# Altium integrated library National Semiconductor Amplifier.IntLib: 1665 symbols (part 18 of 44)
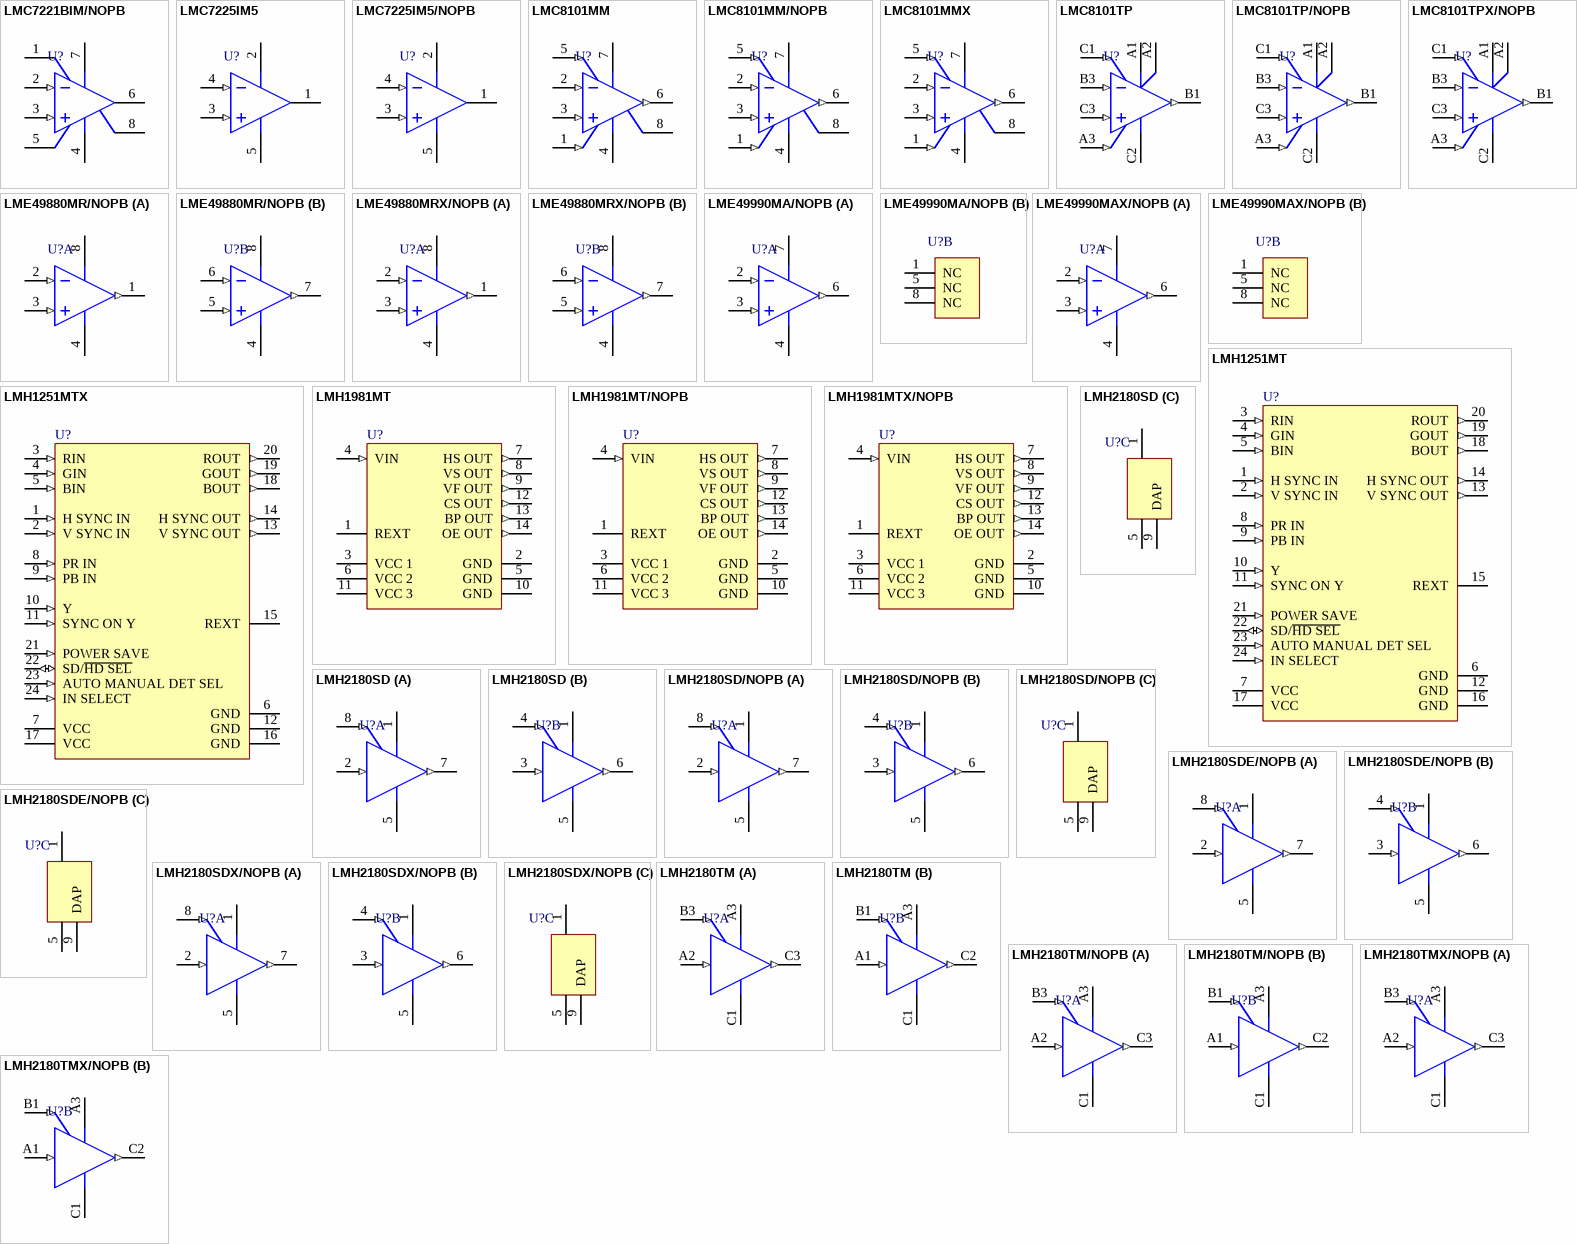
[diagram p101: symbols LMC7221BIM/NOPB to LMH2180TMX/NOPB]

## LMH2180TM/NOPB
designator U?
75 MHz Dual Clock Buffer, 8-pin Micro SMD, Pb-Free; PartNumber: LMH2180TM/NOPB; Manufacturer: National Semiconductor; PackageTopMarking: XVA*I A; PowerWise: N; CompType: Amplifiers; High-Reliability: Y; DatasheetVersion: Aug-2008; PackageVersion: revA; PackageReference: TMD08CCA; PackageDescription: Thin Micro SMD, 8 Bump, 0.4mm Pitch; RoHS: Y; PinCount: 8; ComponentLink1Description: Manufacturer URL; ComponentLink1URL: http://www.national.com/; ComponentLink2Description: LMH2180 Datasheet; ComponentLink2URL: http://www.national.com/ds/LM/LMH2180.pdf; ComponentLink3Description: LMH2180 Web Page; ComponentLink3URL: http://www.national.com/pf/LM/LMH2180.html; ComponentLink4Description: TMD08AAA Package Page; ComponentLink4URL: http://www.national.com/packaging/folders/tmd08aaa.html
footprint TMD08CCA (Micro SMD, 8-Leads, Body 1.22x1.22mm, Pitch 0.4mm, NSC Recommended)
pins on every part: A3 VDD (power), C1 VSS (power)
part A pins: A2 IN1 (in), B3 EN1 (in), C3 OUT1 (out)
part B pins: A1 IN2 (in), B1 EN2 (in), C2 OUT2 (out)

## LMH2180TMX/NOPB
designator U?
75 MHz Dual Clock Buffer, 8-pin Micro SMD, Pb-Free; PartNumber: LMH2180TMX/NOPB; Manufacturer: National Semiconductor; PackageTopMarking: XVA*I A; PowerWise: N; CompType: Amplifiers; High-Reliability: Y; DatasheetVersion: Aug-2008; PackageVersion: revA; PackageReference: TMD08CCA; PackageDescription: Thin Micro SMD, 8 Bump, 0.4mm Pitch; RoHS: Y; PinCount: 8; ComponentLink1Description: Manufacturer URL; ComponentLink1URL: http://www.national.com/; ComponentLink2Description: LMH2180 Datasheet; ComponentLink2URL: http://www.national.com/ds/LM/LMH2180.pdf; ComponentLink3Description: LMH2180 Web Page; ComponentLink3URL: http://www.national.com/pf/LM/LMH2180.html; ComponentLink4Description: TMD08AAA Package Page; ComponentLink4URL: http://www.national.com/packaging/folders/tmd08aaa.html
footprint TMD08CCA (Micro SMD, 8-Leads, Body 1.22x1.22mm, Pitch 0.4mm, NSC Recommended)
pins on every part: A3 VDD (power), C1 VSS (power)
part A pins: A2 IN1 (in), B3 EN1 (in), C3 OUT1 (out)
part B pins: A1 IN2 (in), B1 EN2 (in), C2 OUT2 (out)

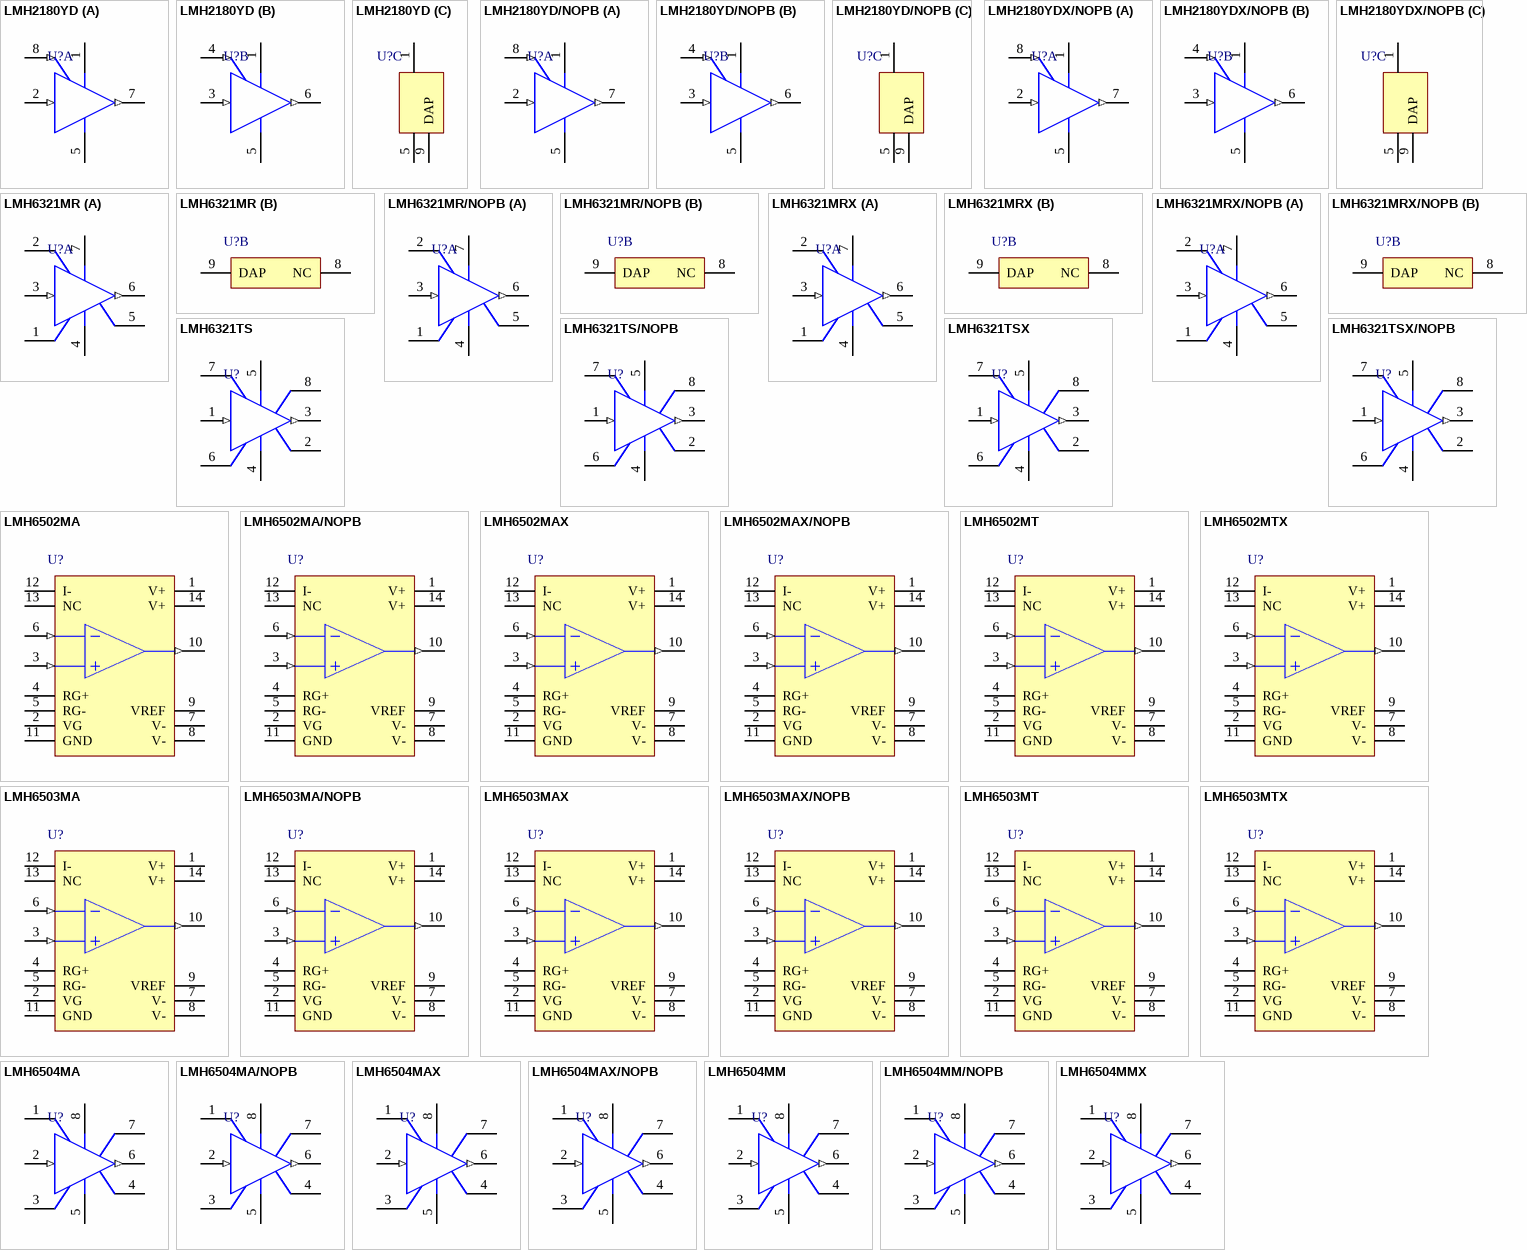
[diagram p39: symbols LMH2180YD to LMH6504MMX]

## LMH2180YD
designator U?
75 MHz Dual Clock Buffer, 9-pin LLP; PartNumber: LMH2180YD; Manufacturer: National Semiconductor; PackageTopMarking: ZXYTT*2180Y; PowerWise: N; CompType: Amplifiers; High-Reliability: Y; DatasheetVersion: Aug-2008; PackageVersion: revB, Jun-2005; PackageReference: YDA08A; PackageDescription: LLP, Plastic, Dual, 3 x 3 x 0.8mm, 8 Lead, 0.5mm Pitch, Solder Bump; RoHS: Y; PinCount: 8; ComponentLink1Description: Manufacturer URL; ComponentLink1URL: http://www.national.com/; ComponentLink2Description: LMH2180 Datasheet; ComponentLink2URL: http://www.national.com/ds/LM/LMH2180.pdf; ComponentLink3Description: LMH2180 Web Page; ComponentLink3URL: http://www.national.com/pf/LM/LMH2180.html; ComponentLink4Description: YDA08A Package Page; ComponentLink4URL: http://www.national.com/packaging/folders/yda08a.html
footprint YDA08A (PSON, 8-Leads, Body 3x3mm, Pitch 0.5mm, NSC Recommended)
pins on every part: 1 VDD (power), 5 VSS (power)
part A pins: 2 IN1 (in), 7 OUT1 (out), 8 EN1 (in)
part B pins: 3 IN2 (in), 4 EN2 (in), 6 OUT2 (out)
part C pins: 9 DAP

## LMH2180YD/NOPB
designator U?
75 MHz Dual Clock Buffer, 8-pin LLP, Pb-Free; PartNumber: LMH2180YD/NOPB; Manufacturer: National Semiconductor; PackageTopMarking: ZXYTT*2180Y; PowerWise: N; CompType: Amplifiers; High-Reliability: Y; DatasheetVersion: Aug-2008; PackageVersion: revB, Jun-2005; PackageReference: YDA08A; PackageDescription: LLP, Plastic, Dual, 3 x 3 x 0.8mm, 8 Lead, 0.5mm Pitch, Solder Bump; RoHS: Y; PinCount: 8; ComponentLink1Description: Manufacturer URL; ComponentLink1URL: http://www.national.com/; ComponentLink2Description: LMH2180 Datasheet; ComponentLink2URL: http://www.national.com/ds/LM/LMH2180.pdf; ComponentLink3Description: LMH2180 Web Page; ComponentLink3URL: http://www.national.com/pf/LM/LMH2180.html; ComponentLink4Description: YDA08A Package Page; ComponentLink4URL: http://www.national.com/packaging/folders/yda08a.html
footprint YDA08A (PSON, 8-Leads, Body 3x3mm, Pitch 0.5mm, NSC Recommended)
pins on every part: 1 VDD (power), 5 VSS (power)
part A pins: 2 IN1 (in), 7 OUT1 (out), 8 EN1 (in)
part B pins: 3 IN2 (in), 4 EN2 (in), 6 OUT2 (out)
part C pins: 9 DAP

## LMH2180YDX/NOPB
designator U?
75 MHz Dual Clock Buffer, 8-pin LLP, Pb-Free; PartNumber: LMH2180YDX/NOPB; Manufacturer: National Semiconductor; PackageTopMarking: ZXYTT*2180Y; PowerWise: N; CompType: Amplifiers; High-Reliability: Y; DatasheetVersion: Aug-2008; PackageVersion: revB, Jun-2005; PackageReference: YDA08A; PackageDescription: LLP, Plastic, Dual, 3 x 3 x 0.8mm, 8 Lead, 0.5mm Pitch, Solder Bump; RoHS: Y; PinCount: 8; ComponentLink1Description: Manufacturer URL; ComponentLink1URL: http://www.national.com/; ComponentLink2Description: LMH2180 Datasheet; ComponentLink2URL: http://www.national.com/ds/LM/LMH2180.pdf; ComponentLink3Description: LMH2180 Web Page; ComponentLink3URL: http://www.national.com/pf/LM/LMH2180.html; ComponentLink4Description: YDA08A Package Page; ComponentLink4URL: http://www.national.com/packaging/folders/yda08a.html
footprint YDA08A (PSON, 8-Leads, Body 3x3mm, Pitch 0.5mm, NSC Recommended)
pins on every part: 1 VDD (power), 5 VSS (power)
part A pins: 2 IN1 (in), 7 OUT1 (out), 8 EN1 (in)
part B pins: 3 IN2 (in), 4 EN2 (in), 6 OUT2 (out)
part C pins: 9 DAP

## LMH6321MR
designator U?
300 mA High Speed Buffer with Adjustable Current Limit, 8-pin PSOP; PartNumber: LMH6321MR; Manufacturer: National Semiconductor; PackageTopMarking: NSXYTT*LMH63*21MR; PowerWise: N; CompType: Amplifiers; High-Reliability: Y; DatasheetVersion: Apr-2007; PackageVersion: revD, Dec-2007; PackageReference: MRA08A; PackageDescription: Molded, PSOP .193 x .154 x .058in, 8 Lead, .050in Pitch; RoHS: N; PinCount: 8; Code_JEDEC: MS-012-AA; ComponentLink1Description: Manufacturer URL; ComponentLink1URL: http://www.national.com/; ComponentLink2Description: LMH6321 Datasheet; ComponentLink2URL: http://www.national.com/ds/LM/LMH6321.pdf; ComponentLink3Description: LMH6321 Web Page; ComponentLink3URL: http://www.national.com/pf/LM/LMH6321.html; ComponentLink4Description: MRA08A Package Page; ComponentLink4URL: http://www.national.com/packaging/folders/mra08a.html
footprint MRA08A_N (SOIC, 8-Leads, Body 4.9x3.9mm, Pitch 1.27mm, Thermal Pad, IPC Medium Density)
footprint MRA08A_L (SOIC, 8-Leads, Body 4.9x3.9mm, Pitch 1.27mm, Thermal Pad, IPC High Density)
footprint MRA08A_M (SOIC, 8-Leads, Body 4.9x3.9mm, Pitch 1.27mm, Thermal Pad, IPC Low Density)
part A pins: 1 EF, 2 CL, 3 IN (in), 4 V- (power), 5 GND (power), 6 OUT (out), 7 V+ (power)
part B pins: 8 NC, 9 DAP

## LMH6321MR/NOPB
designator U?
300 mA High Speed Buffer with Adjustable Current Limit, 8-pin PSOP, Pb-Free; PartNumber: LMH6321MR/NOPB; Manufacturer: National Semiconductor; PackageTopMarking: NSXYTT*LMH63*21MR; PowerWise: N; CompType: Amplifiers; High-Reliability: Y; DatasheetVersion: Apr-2007; PackageVersion: revD, Dec-2007; PackageReference: MRA08A; PackageDescription: Molded, PSOP .193 x .154 x .058in, 8 Lead, .050in Pitch; RoHS: Y; PinCount: 8; Code_JEDEC: MS-012-AA; ComponentLink1Description: Manufacturer URL; ComponentLink1URL: http://www.national.com/; ComponentLink2Description: LMH6321 Datasheet; ComponentLink2URL: http://www.national.com/ds/LM/LMH6321.pdf; ComponentLink3Description: LMH6321 Web Page; ComponentLink3URL: http://www.national.com/pf/LM/LMH6321.html; ComponentLink4Description: MRA08A Package Page; ComponentLink4URL: http://www.national.com/packaging/folders/mra08a.html
footprint MRA08A_N (SOIC, 8-Leads, Body 4.9x3.9mm, Pitch 1.27mm, Thermal Pad, IPC Medium Density)
footprint MRA08A_L (SOIC, 8-Leads, Body 4.9x3.9mm, Pitch 1.27mm, Thermal Pad, IPC High Density)
footprint MRA08A_M (SOIC, 8-Leads, Body 4.9x3.9mm, Pitch 1.27mm, Thermal Pad, IPC Low Density)
part A pins: 1 EF, 2 CL, 3 IN (in), 4 V- (power), 5 GND (power), 6 OUT (out), 7 V+ (power)
part B pins: 8 NC, 9 DAP

## LMH6321MRX
designator U?
300 mA High Speed Buffer with Adjustable Current Limit, 8-pin PSOP; PartNumber: LMH6321MRX; Manufacturer: National Semiconductor; PackageTopMarking: NSXYTT*LMH63*21MR; PowerWise: N; CompType: Amplifiers; High-Reliability: Y; DatasheetVersion: Apr-2007; PackageVersion: revD, Dec-2007; PackageReference: MRA08A; PackageDescription: Molded, PSOP .193 x .154 x .058in, 8 Lead, .050in Pitch; RoHS: N; PinCount: 8; Code_JEDEC: MS-012-AA; ComponentLink1Description: Manufacturer URL; ComponentLink1URL: http://www.national.com/; ComponentLink2Description: LMH6321 Datasheet; ComponentLink2URL: http://www.national.com/ds/LM/LMH6321.pdf; ComponentLink3Description: LMH6321 Web Page; ComponentLink3URL: http://www.national.com/pf/LM/LMH6321.html; ComponentLink4Description: MRA08A Package Page; ComponentLink4URL: http://www.national.com/packaging/folders/mra08a.html
footprint MRA08A_N (SOIC, 8-Leads, Body 4.9x3.9mm, Pitch 1.27mm, Thermal Pad, IPC Medium Density)
footprint MRA08A_L (SOIC, 8-Leads, Body 4.9x3.9mm, Pitch 1.27mm, Thermal Pad, IPC High Density)
footprint MRA08A_M (SOIC, 8-Leads, Body 4.9x3.9mm, Pitch 1.27mm, Thermal Pad, IPC Low Density)
part A pins: 1 EF, 2 CL, 3 IN (in), 4 V- (power), 5 GND (power), 6 OUT (out), 7 V+ (power)
part B pins: 8 NC, 9 DAP

## LMH6321MRX/NOPB
designator U?
300 mA High Speed Buffer with Adjustable Current Limit, 8-pin PSOP, Pb-Free; PartNumber: LMH6321MRX/NOPB; Manufacturer: National Semiconductor; PackageTopMarking: NSXYTT*LMH63*21MR; PowerWise: N; CompType: Amplifiers; High-Reliability: Y; DatasheetVersion: Apr-2007; PackageVersion: revD, Dec-2007; PackageReference: MRA08A; PackageDescription: Molded, PSOP .193 x .154 x .058in, 8 Lead, .050in Pitch; RoHS: Y; PinCount: 8; Code_JEDEC: MS-012-AA; ComponentLink1Description: Manufacturer URL; ComponentLink1URL: http://www.national.com/; ComponentLink2Description: LMH6321 Datasheet; ComponentLink2URL: http://www.national.com/ds/LM/LMH6321.pdf; ComponentLink3Description: LMH6321 Web Page; ComponentLink3URL: http://www.national.com/pf/LM/LMH6321.html; ComponentLink4Description: MRA08A Package Page; ComponentLink4URL: http://www.national.com/packaging/folders/mra08a.html
footprint MRA08A_N (SOIC, 8-Leads, Body 4.9x3.9mm, Pitch 1.27mm, Thermal Pad, IPC Medium Density)
footprint MRA08A_L (SOIC, 8-Leads, Body 4.9x3.9mm, Pitch 1.27mm, Thermal Pad, IPC High Density)
footprint MRA08A_M (SOIC, 8-Leads, Body 4.9x3.9mm, Pitch 1.27mm, Thermal Pad, IPC Low Density)
part A pins: 1 EF, 2 CL, 3 IN (in), 4 V- (power), 5 GND (power), 6 OUT (out), 7 V+ (power)
part B pins: 8 NC, 9 DAP

## LMH6321TS
designator U?
300 mA High Speed Buffer with Adjustable Current Limit, 7-pin TO-263; PartNumber: LMH6321TS; Manufacturer: National Semiconductor; PackageTopMarking: NSUZXYTTE#*LMH6321TS; PowerWise: N; CompType: Amplifiers; High-Reliability: Y; DatasheetVersion: Apr-2007; PackageVersion: revE, Jul-2003; PackageReference: TS7B; PackageDescription: TO-263, Molded, .400 x .390 x .180in Body, 7 Lead, .050in Pitch, Surface Mount; RoHS: N; PinCount: 7; Code_JEDEC: MO-169-AC; ComponentLink1Description: Manufacturer URL; ComponentLink1URL: http://www.national.com/; ComponentLink2Description: LMH6321 Datasheet; ComponentLink2URL: http://www.national.com/ds/LM/LMH6321.pdf; ComponentLink3Description: LMH6321 Web Page; ComponentLink3URL: http://www.national.com/pf/LM/LMH6321.html; ComponentLink4Description: TS7B Package Page; ComponentLink4URL: http://www.national.com/packaging/folders/ts7b.html
footprint TS7B_N (D2-PAK, 8-Leads, Body 8.6x10.2mm, Pitch 1.27mm, Lead Span 14.1mm, IPC Medium Density)
footprint TS7B_L (D2-PAK, 8-Leads, Body 8.6x10.2mm, Pitch 1.27mm, Lead Span 14.1mm, IPC High Density)
footprint TS7B_M (D2-PAK, 8-Leads, Body 8.6x10.2mm, Pitch 1.27mm, Lead Span 14.1mm, IPC Low Density)
pins: 1 IN (in), 2 GND (power), 3 OUT (out), 4 V- (power), 5 V+ (power), 6 EF, 7 CL, 8 TAB

## LMH6321TS/NOPB
designator U?
300 mA High Speed Buffer with Adjustable Current Limit, 7-pin TO-263, Pb-Free; PartNumber: LMH6321TS/NOPB; Manufacturer: National Semiconductor; PackageTopMarking: NSUZXYTTE#*LMH6321TS; PowerWise: N; CompType: Amplifiers; High-Reliability: Y; DatasheetVersion: Apr-2007; PackageVersion: revE, Jul-2003; PackageReference: TS7B; PackageDescription: TO-263, Molded, .400 x .390 x .180in Body, 7 Lead, .050in Pitch, Surface Mount; RoHS: Y; PinCount: 7; Code_JEDEC: MO-169-AC; ComponentLink1Description: Manufacturer URL; ComponentLink1URL: http://www.national.com/; ComponentLink2Description: LMH6321 Datasheet; ComponentLink2URL: http://www.national.com/ds/LM/LMH6321.pdf; ComponentLink3Description: LMH6321 Web Page; ComponentLink3URL: http://www.national.com/pf/LM/LMH6321.html; ComponentLink4Description: TS7B Package Page; ComponentLink4URL: http://www.national.com/packaging/folders/ts7b.html
footprint TS7B_N (D2-PAK, 8-Leads, Body 8.6x10.2mm, Pitch 1.27mm, Lead Span 14.1mm, IPC Medium Density)
footprint TS7B_L (D2-PAK, 8-Leads, Body 8.6x10.2mm, Pitch 1.27mm, Lead Span 14.1mm, IPC High Density)
footprint TS7B_M (D2-PAK, 8-Leads, Body 8.6x10.2mm, Pitch 1.27mm, Lead Span 14.1mm, IPC Low Density)
pins: 1 IN (in), 2 GND (power), 3 OUT (out), 4 V- (power), 5 V+ (power), 6 EF, 7 CL, 8 TAB

## LMH6321TSX
designator U?
300 mA High Speed Buffer with Adjustable Current Limit, 7-pin TO-263; PartNumber: LMH6321TSX; Manufacturer: National Semiconductor; PackageTopMarking: NSUZXYTTE#*LMH6321TS; PowerWise: N; CompType: Amplifiers; High-Reliability: Y; DatasheetVersion: Apr-2007; PackageVersion: revE, Jul-2003; PackageReference: TS7B; PackageDescription: TO-263, Molded, .400 x .390 x .180in Body, 7 Lead, .050in Pitch, Surface Mount; RoHS: N; PinCount: 7; Code_JEDEC: MO-169-AC; ComponentLink1Description: Manufacturer URL; ComponentLink1URL: http://www.national.com/; ComponentLink2Description: LMH6321 Datasheet; ComponentLink2URL: http://www.national.com/ds/LM/LMH6321.pdf; ComponentLink3Description: LMH6321 Web Page; ComponentLink3URL: http://www.national.com/pf/LM/LMH6321.html; ComponentLink4Description: TS7B Package Page; ComponentLink4URL: http://www.national.com/packaging/folders/ts7b.html
footprint TS7B_N (D2-PAK, 8-Leads, Body 8.6x10.2mm, Pitch 1.27mm, Lead Span 14.1mm, IPC Medium Density)
footprint TS7B_L (D2-PAK, 8-Leads, Body 8.6x10.2mm, Pitch 1.27mm, Lead Span 14.1mm, IPC High Density)
footprint TS7B_M (D2-PAK, 8-Leads, Body 8.6x10.2mm, Pitch 1.27mm, Lead Span 14.1mm, IPC Low Density)
pins: 1 IN (in), 2 GND (power), 3 OUT (out), 4 V- (power), 5 V+ (power), 6 EF, 7 CL, 8 TAB

## LMH6321TSX/NOPB
designator U?
300 mA High Speed Buffer with Adjustable Current Limit, 7-pin TO-263, Pb-Free; PartNumber: LMH6321TSX/NOPB; Manufacturer: National Semiconductor; PackageTopMarking: NSUZXYTTE#*LMH6321TS; PowerWise: N; CompType: Amplifiers; High-Reliability: Y; DatasheetVersion: Apr-2007; PackageVersion: revE, Jul-2003; PackageReference: TS7B; PackageDescription: TO-263, Molded, .400 x .390 x .180in Body, 7 Lead, .050in Pitch, Surface Mount; RoHS: Y; PinCount: 7; Code_JEDEC: MO-169-AC; ComponentLink1Description: Manufacturer URL; ComponentLink1URL: http://www.national.com/; ComponentLink2Description: LMH6321 Datasheet; ComponentLink2URL: http://www.national.com/ds/LM/LMH6321.pdf; ComponentLink3Description: LMH6321 Web Page; ComponentLink3URL: http://www.national.com/pf/LM/LMH6321.html; ComponentLink4Description: TS7B Package Page; ComponentLink4URL: http://www.national.com/packaging/folders/ts7b.html
footprint TS7B_N (D2-PAK, 8-Leads, Body 8.6x10.2mm, Pitch 1.27mm, Lead Span 14.1mm, IPC Medium Density)
footprint TS7B_L (D2-PAK, 8-Leads, Body 8.6x10.2mm, Pitch 1.27mm, Lead Span 14.1mm, IPC High Density)
footprint TS7B_M (D2-PAK, 8-Leads, Body 8.6x10.2mm, Pitch 1.27mm, Lead Span 14.1mm, IPC Low Density)
pins: 1 IN (in), 2 GND (power), 3 OUT (out), 4 V- (power), 5 V+ (power), 6 EF, 7 CL, 8 TAB

## LMH6502MA
designator U?
Wideband, Low Power, Linear-in-dB Variable Gain Amplifier, 14-pin Narrow SOIC; PartNumber: LMH6502MA; Manufacturer: National Semiconductor; PackageTopMarking: NSUZXYTTE#*LMH6502MA; PowerWise: N; CompType: Amplifiers; High-Reliability: Y; DatasheetVersion: Jun-2004; PackageVersion: revJ, Jan-1996; PackageReference: M14A; PackageDescription: Molded Package S.O., .150in Wide, 14 Lead; RoHS: N; PinCount: 14; Code_JEDEC: MS-012AB; Code_IPC: SOIC127P600-14; ComponentLink1Description: Manufacturer URL; ComponentLink1URL: http://www.national.com/; ComponentLink2Description: LMH6502 Datasheet; ComponentLink2URL: http://www.national.com/ds/LM/LMH6502.pdf; ComponentLink3Description: LMH6502 Web Page; ComponentLink3URL: http://www.national.com/pf/LM/LMH6502.html; ComponentLink4Description: M14A Package Page; ComponentLink4URL: http://www.national.com/packaging/folders/m14a.html
footprint M14A_N (SOIC, 14-Leads, Body 8.6x3.9mm, Pitch 1.27mm, IPC Medium Density)
footprint M14A_L (SOIC, 14-Leads, Body 8.6x3.9mm, Pitch 1.27mm, IPC High Density)
footprint M14A_M (SOIC, 14-Leads, Body 8.6x3.9mm, Pitch 1.27mm, IPC Low Density)
pins: 1 V+ (power), 2 VG, 3 VIN+ (in), 4 RG+, 5 RG-, 6 VIN- (in), 7 V- (power), 8 V- (power), 9 VREF, 10 VOUT (out), 11 GND (power), 12 I-, 13 NC, 14 V+ (power)

## LMH6502MA/NOPB
designator U?
Wideband, Low Power, Linear-in-dB Variable Gain Amplifier, 14-pin Narrow SOIC, Pb-Free; PartNumber: LMH6502MA/NOPB; Manufacturer: National Semiconductor; PackageTopMarking: NSUZXYTTE#*LMH6502MA; PowerWise: N; CompType: Amplifiers; High-Reliability: Y; DatasheetVersion: Jun-2004; PackageVersion: revJ, Jan-1996; PackageReference: M14A; PackageDescription: Molded Package S.O., .150in Wide, 14 Lead; RoHS: Y; PinCount: 14; Code_JEDEC: MS-012AB; Code_IPC: SOIC127P600-14; ComponentLink1Description: Manufacturer URL; ComponentLink1URL: http://www.national.com/; ComponentLink2Description: LMH6502 Datasheet; ComponentLink2URL: http://www.national.com/ds/LM/LMH6502.pdf; ComponentLink3Description: LMH6502 Web Page; ComponentLink3URL: http://www.national.com/pf/LM/LMH6502.html; ComponentLink4Description: M14A Package Page; ComponentLink4URL: http://www.national.com/packaging/folders/m14a.html
footprint M14A_N (SOIC, 14-Leads, Body 8.6x3.9mm, Pitch 1.27mm, IPC Medium Density)
footprint M14A_L (SOIC, 14-Leads, Body 8.6x3.9mm, Pitch 1.27mm, IPC High Density)
footprint M14A_M (SOIC, 14-Leads, Body 8.6x3.9mm, Pitch 1.27mm, IPC Low Density)
pins: 1 V+ (power), 2 VG, 3 VIN+ (in), 4 RG+, 5 RG-, 6 VIN- (in), 7 V- (power), 8 V- (power), 9 VREF, 10 VOUT (out), 11 GND (power), 12 I-, 13 NC, 14 V+ (power)

## LMH6502MAX
designator U?
Wideband, Low Power, Linear-in-dB Variable Gain Amplifier, 14-pin Narrow SOIC; PartNumber: LMH6502MAX; Manufacturer: National Semiconductor; PackageTopMarking: NSUZXYTTE#*LMH6502MA; PowerWise: N; CompType: Amplifiers; High-Reliability: Y; DatasheetVersion: Jun-2004; PackageVersion: revJ, Jan-1996; PackageReference: M14A; PackageDescription: Molded Package S.O., .150in Wide, 14 Lead; RoHS: N; PinCount: 14; Code_JEDEC: MS-012AB; Code_IPC: SOIC127P600-14; ComponentLink1Description: Manufacturer URL; ComponentLink1URL: http://www.national.com/; ComponentLink2Description: LMH6502 Datasheet; ComponentLink2URL: http://www.national.com/ds/LM/LMH6502.pdf; ComponentLink3Description: LMH6502 Web Page; ComponentLink3URL: http://www.national.com/pf/LM/LMH6502.html; ComponentLink4Description: M14A Package Page; ComponentLink4URL: http://www.national.com/packaging/folders/m14a.html
footprint M14A_N (SOIC, 14-Leads, Body 8.6x3.9mm, Pitch 1.27mm, IPC Medium Density)
footprint M14A_L (SOIC, 14-Leads, Body 8.6x3.9mm, Pitch 1.27mm, IPC High Density)
footprint M14A_M (SOIC, 14-Leads, Body 8.6x3.9mm, Pitch 1.27mm, IPC Low Density)
pins: 1 V+ (power), 2 VG, 3 VIN+ (in), 4 RG+, 5 RG-, 6 VIN- (in), 7 V- (power), 8 V- (power), 9 VREF, 10 VOUT (out), 11 GND (power), 12 I-, 13 NC, 14 V+ (power)

## LMH6502MAX/NOPB
designator U?
Wideband, Low Power, Linear-in-dB Variable Gain Amplifier, 14-pin Narrow SOIC, Pb-Free; PartNumber: LMH6502MAX/NOPB; Manufacturer: National Semiconductor; PackageTopMarking: NSUZXYTTE#*LMH6502MA; PowerWise: N; CompType: Amplifiers; High-Reliability: Y; DatasheetVersion: Jun-2004; PackageVersion: revJ, Jan-1996; PackageReference: M14A; PackageDescription: Molded Package S.O., .150in Wide, 14 Lead; RoHS: Y; PinCount: 14; Code_JEDEC: MS-012AB; Code_IPC: SOIC127P600-14; ComponentLink1Description: Manufacturer URL; ComponentLink1URL: http://www.national.com/; ComponentLink2Description: LMH6502 Datasheet; ComponentLink2URL: http://www.national.com/ds/LM/LMH6502.pdf; ComponentLink3Description: LMH6502 Web Page; ComponentLink3URL: http://www.national.com/pf/LM/LMH6502.html; ComponentLink4Description: M14A Package Page; ComponentLink4URL: http://www.national.com/packaging/folders/m14a.html
footprint M14A_N (SOIC, 14-Leads, Body 8.6x3.9mm, Pitch 1.27mm, IPC Medium Density)
footprint M14A_L (SOIC, 14-Leads, Body 8.6x3.9mm, Pitch 1.27mm, IPC High Density)
footprint M14A_M (SOIC, 14-Leads, Body 8.6x3.9mm, Pitch 1.27mm, IPC Low Density)
pins: 1 V+ (power), 2 VG, 3 VIN+ (in), 4 RG+, 5 RG-, 6 VIN- (in), 7 V- (power), 8 V- (power), 9 VREF, 10 VOUT (out), 11 GND (power), 12 I-, 13 NC, 14 V+ (power)

## LMH6502MT
designator U?
Wideband, Low Power, Linear-in-dB Variable Gain Amplifier, 14-pin TSSOP; PartNumber: LMH6502MT; Manufacturer: National Semiconductor; PackageTopMarking: NSUZXYTT*LMH65*02MT; PowerWise: N; CompType: Amplifiers; High-Reliability: Y; DatasheetVersion: Jun-2004; PackageVersion: revD, Jun-2003; PackageReference: MTC14; PackageDescription: Molded TSSOP, JEDEC, 5 x 4.4 x 0.9mm Body, 14 Lead, 0.65mm Pitch; RoHS: N; PinCount: 14; Code_JEDEC: MO-153-AB-1; ComponentLink1Description: Manufacturer URL; ComponentLink1URL: http://www.national.com/; ComponentLink2Description: LMH6502 Datasheet; ComponentLink2URL: http://www.national.com/ds/LM/LMH6502.pdf; ComponentLink3Description: LMH6502 Web Page; ComponentLink3URL: http://www.national.com/pf/LM/LMH6502.html; ComponentLink4Description: MTC14 Package Page; ComponentLink4URL: http://www.national.com/packaging/folders/mtc14.html
footprint MTC14_N (TSOP, 14-Leads, Body 5x4.4mm, Pitch 0.65mm, IPC Medium Density)
footprint MTC14_L (TSOP, 14-Leads, Body 5x4.4mm, Pitch 0.65mm, IPC High Density)
footprint MTC14_M (TSOP, 14-Leads, Body 5x4.4mm, Pitch 0.65mm, IPC Low Density)
pins: 1 V+ (power), 2 VG, 3 VIN+ (in), 4 RG+, 5 RG-, 6 VIN- (in), 7 V- (power), 8 V- (power), 9 VREF, 10 VOUT (out), 11 GND (power), 12 I-, 13 NC, 14 V+ (power)

## LMH6502MTX
designator U?
Wideband, Low Power, Linear-in-dB Variable Gain Amplifier, 14-pin TSSOP; PartNumber: LMH6502MTX; Manufacturer: National Semiconductor; PackageTopMarking: NSUZXYTT*LMH65*02MT; PowerWise: N; CompType: Amplifiers; High-Reliability: Y; DatasheetVersion: Jun-2004; PackageVersion: revD, Jun-2003; PackageReference: MTC14; PackageDescription: Molded TSSOP, JEDEC, 5 x 4.4 x 0.9mm Body, 14 Lead, 0.65mm Pitch; RoHS: N; PinCount: 14; Code_JEDEC: MO-153-AB-1; ComponentLink1Description: Manufacturer URL; ComponentLink1URL: http://www.national.com/; ComponentLink2Description: LMH6502 Datasheet; ComponentLink2URL: http://www.national.com/ds/LM/LMH6502.pdf; ComponentLink3Description: LMH6502 Web Page; ComponentLink3URL: http://www.national.com/pf/LM/LMH6502.html; ComponentLink4Description: MTC14 Package Page; ComponentLink4URL: http://www.national.com/packaging/folders/mtc14.html
footprint MTC14_N (TSOP, 14-Leads, Body 5x4.4mm, Pitch 0.65mm, IPC Medium Density)
footprint MTC14_L (TSOP, 14-Leads, Body 5x4.4mm, Pitch 0.65mm, IPC High Density)
footprint MTC14_M (TSOP, 14-Leads, Body 5x4.4mm, Pitch 0.65mm, IPC Low Density)
pins: 1 V+ (power), 2 VG, 3 VIN+ (in), 4 RG+, 5 RG-, 6 VIN- (in), 7 V- (power), 8 V- (power), 9 VREF, 10 VOUT (out), 11 GND (power), 12 I-, 13 NC, 14 V+ (power)

## LMH6503MA
designator U?
Wideband, Low Power, Linear Variable Gain Amplifier, 14-pin Narrow SOIC; PartNumber: LMH6503MA; Manufacturer: National Semiconductor; PackageTopMarking: NSUZXYTTE#*LMH6503MA; PowerWise: N; CompType: Amplifiers; High-Reliability: Y; DatasheetVersion: Jun-2004; PackageVersion: revJ, Jan-1996; PackageReference: M14A; PackageDescription: Molded Package S.O., .150in Wide, 14 Lead; RoHS: N; PinCount: 14; Code_JEDEC: MS-012AB; Code_IPC: SOIC127P600-14; ComponentLink1Description: Manufacturer URL; ComponentLink1URL: http://www.national.com/; ComponentLink2Description: LMH6503 Datasheet; ComponentLink2URL: http://www.national.com/ds/LM/LMH6503.pdf; ComponentLink3Description: LMH6503 Web Page; ComponentLink3URL: http://www.national.com/pf/LM/LMH6503.html; ComponentLink4Description: M14A Package Page; ComponentLink4URL: http://www.national.com/packaging/folders/m14a.html
footprint M14A_N (SOIC, 14-Leads, Body 8.6x3.9mm, Pitch 1.27mm, IPC Medium Density)
footprint M14A_L (SOIC, 14-Leads, Body 8.6x3.9mm, Pitch 1.27mm, IPC High Density)
footprint M14A_M (SOIC, 14-Leads, Body 8.6x3.9mm, Pitch 1.27mm, IPC Low Density)
pins: 1 V+ (power), 2 VG, 3 VIN+ (in), 4 RG+, 5 RG-, 6 VIN- (in), 7 V- (power), 8 V- (power), 9 VREF, 10 VOUT (out), 11 GND (power), 12 I-, 13 NC, 14 V+ (power)

## LMH6503MA/NOPB
designator U?
Wideband, Low Power, Linear Variable Gain Amplifier, 14-pin Narrow SOIC, Pb-Free; PartNumber: LMH6503MA/NOPB; Manufacturer: National Semiconductor; PackageTopMarking: NSUZXYTTE#*LMH6503MA; PowerWise: N; CompType: Amplifiers; High-Reliability: Y; DatasheetVersion: Jun-2004; PackageVersion: revJ, Jan-1996; PackageReference: M14A; PackageDescription: Molded Package S.O., .150in Wide, 14 Lead; RoHS: Y; PinCount: 14; Code_JEDEC: MS-012AB; Code_IPC: SOIC127P600-14; ComponentLink1Description: Manufacturer URL; ComponentLink1URL: http://www.national.com/; ComponentLink2Description: LMH6503 Datasheet; ComponentLink2URL: http://www.national.com/ds/LM/LMH6503.pdf; ComponentLink3Description: LMH6503 Web Page; ComponentLink3URL: http://www.national.com/pf/LM/LMH6503.html; ComponentLink4Description: M14A Package Page; ComponentLink4URL: http://www.national.com/packaging/folders/m14a.html
footprint M14A_N (SOIC, 14-Leads, Body 8.6x3.9mm, Pitch 1.27mm, IPC Medium Density)
footprint M14A_L (SOIC, 14-Leads, Body 8.6x3.9mm, Pitch 1.27mm, IPC High Density)
footprint M14A_M (SOIC, 14-Leads, Body 8.6x3.9mm, Pitch 1.27mm, IPC Low Density)
pins: 1 V+ (power), 2 VG, 3 VIN+ (in), 4 RG+, 5 RG-, 6 VIN- (in), 7 V- (power), 8 V- (power), 9 VREF, 10 VOUT (out), 11 GND (power), 12 I-, 13 NC, 14 V+ (power)

## LMH6503MAX
designator U?
Wideband, Low Power, Linear Variable Gain Amplifier, 14-pin Narrow SOIC; PartNumber: LMH6503MAX; Manufacturer: National Semiconductor; PackageTopMarking: NSUZXYTTE#*LMH6503MA; PowerWise: N; CompType: Amplifiers; High-Reliability: Y; DatasheetVersion: Jun-2004; PackageVersion: revJ, Jan-1996; PackageReference: M14A; PackageDescription: Molded Package S.O., .150in Wide, 14 Lead; RoHS: N; PinCount: 14; Code_JEDEC: MS-012AB; Code_IPC: SOIC127P600-14; ComponentLink1Description: Manufacturer URL; ComponentLink1URL: http://www.national.com/; ComponentLink2Description: LMH6503 Datasheet; ComponentLink2URL: http://www.national.com/ds/LM/LMH6503.pdf; ComponentLink3Description: LMH6503 Web Page; ComponentLink3URL: http://www.national.com/pf/LM/LMH6503.html; ComponentLink4Description: M14A Package Page; ComponentLink4URL: http://www.national.com/packaging/folders/m14a.html
footprint M14A_N (SOIC, 14-Leads, Body 8.6x3.9mm, Pitch 1.27mm, IPC Medium Density)
footprint M14A_L (SOIC, 14-Leads, Body 8.6x3.9mm, Pitch 1.27mm, IPC High Density)
footprint M14A_M (SOIC, 14-Leads, Body 8.6x3.9mm, Pitch 1.27mm, IPC Low Density)
pins: 1 V+ (power), 2 VG, 3 VIN+ (in), 4 RG+, 5 RG-, 6 VIN- (in), 7 V- (power), 8 V- (power), 9 VREF, 10 VOUT (out), 11 GND (power), 12 I-, 13 NC, 14 V+ (power)

## LMH6503MAX/NOPB
designator U?
Wideband, Low Power, Linear Variable Gain Amplifier, 14-pin Narrow SOIC, Pb-Free; PartNumber: LMH6503MAX/NOPB; Manufacturer: National Semiconductor; PackageTopMarking: NSUZXYTTE#*LMH6503MA; PowerWise: N; CompType: Amplifiers; High-Reliability: Y; DatasheetVersion: Jun-2004; PackageVersion: revJ, Jan-1996; PackageReference: M14A; PackageDescription: Molded Package S.O., .150in Wide, 14 Lead; RoHS: Y; PinCount: 14; Code_JEDEC: MS-012AB; Code_IPC: SOIC127P600-14; ComponentLink1Description: Manufacturer URL; ComponentLink1URL: http://www.national.com/; ComponentLink2Description: LMH6503 Datasheet; ComponentLink2URL: http://www.national.com/ds/LM/LMH6503.pdf; ComponentLink3Description: LMH6503 Web Page; ComponentLink3URL: http://www.national.com/pf/LM/LMH6503.html; ComponentLink4Description: M14A Package Page; ComponentLink4URL: http://www.national.com/packaging/folders/m14a.html
footprint M14A_N (SOIC, 14-Leads, Body 8.6x3.9mm, Pitch 1.27mm, IPC Medium Density)
footprint M14A_L (SOIC, 14-Leads, Body 8.6x3.9mm, Pitch 1.27mm, IPC High Density)
footprint M14A_M (SOIC, 14-Leads, Body 8.6x3.9mm, Pitch 1.27mm, IPC Low Density)
pins: 1 V+ (power), 2 VG, 3 VIN+ (in), 4 RG+, 5 RG-, 6 VIN- (in), 7 V- (power), 8 V- (power), 9 VREF, 10 VOUT (out), 11 GND (power), 12 I-, 13 NC, 14 V+ (power)

## LMH6503MT
designator U?
Wideband, Low Power, Linear Variable Gain Amplifier, 14-pin TSSOP; PartNumber: LMH6503MT; Manufacturer: National Semiconductor; PackageTopMarking: NSUZXYTT*LMH65*03MT; PowerWise: N; CompType: Amplifiers; High-Reliability: Y; DatasheetVersion: Jun-2004; PackageVersion: revD, Jun-2003; PackageReference: MTC14; PackageDescription: Molded TSSOP, JEDEC, 5 x 4.4 x 0.9mm Body, 14 Lead, 0.65mm Pitch; RoHS: N; PinCount: 14; Code_JEDEC: MO-153-AB-1; ComponentLink1Description: Manufacturer URL; ComponentLink1URL: http://www.national.com/; ComponentLink2Description: LMH6503 Datasheet; ComponentLink2URL: http://www.national.com/ds/LM/LMH6503.pdf; ComponentLink3Description: LMH6503 Web Page; ComponentLink3URL: http://www.national.com/pf/LM/LMH6503.html; ComponentLink4Description: MTC14 Package Page; ComponentLink4URL: http://www.national.com/packaging/folders/mtc14.html
footprint MTC14_N (TSOP, 14-Leads, Body 5x4.4mm, Pitch 0.65mm, IPC Medium Density)
footprint MTC14_L (TSOP, 14-Leads, Body 5x4.4mm, Pitch 0.65mm, IPC High Density)
footprint MTC14_M (TSOP, 14-Leads, Body 5x4.4mm, Pitch 0.65mm, IPC Low Density)
pins: 1 V+ (power), 2 VG, 3 VIN+ (in), 4 RG+, 5 RG-, 6 VIN- (in), 7 V- (power), 8 V- (power), 9 VREF, 10 VOUT (out), 11 GND (power), 12 I-, 13 NC, 14 V+ (power)

## LMH6503MTX
designator U?
Wideband, Low Power, Linear Variable Gain Amplifier, 14-pin TSSOP; PartNumber: LMH6503MTX; Manufacturer: National Semiconductor; PackageTopMarking: NSUZXYTT*LMH65*03MT; PowerWise: N; CompType: Amplifiers; High-Reliability: Y; DatasheetVersion: Jun-2004; PackageVersion: revD, Jun-2003; PackageReference: MTC14; PackageDescription: Molded TSSOP, JEDEC, 5 x 4.4 x 0.9mm Body, 14 Lead, 0.65mm Pitch; RoHS: N; PinCount: 14; Code_JEDEC: MO-153-AB-1; ComponentLink1Description: Manufacturer URL; ComponentLink1URL: http://www.national.com/; ComponentLink2Description: LMH6503 Datasheet; ComponentLink2URL: http://www.national.com/ds/LM/LMH6503.pdf; ComponentLink3Description: LMH6503 Web Page; ComponentLink3URL: http://www.national.com/pf/LM/LMH6503.html; ComponentLink4Description: MTC14 Package Page; ComponentLink4URL: http://www.national.com/packaging/folders/mtc14.html
footprint MTC14_N (TSOP, 14-Leads, Body 5x4.4mm, Pitch 0.65mm, IPC Medium Density)
footprint MTC14_L (TSOP, 14-Leads, Body 5x4.4mm, Pitch 0.65mm, IPC High Density)
footprint MTC14_M (TSOP, 14-Leads, Body 5x4.4mm, Pitch 0.65mm, IPC Low Density)
pins: 1 V+ (power), 2 VG, 3 VIN+ (in), 4 RG+, 5 RG-, 6 VIN- (in), 7 V- (power), 8 V- (power), 9 VREF, 10 VOUT (out), 11 GND (power), 12 I-, 13 NC, 14 V+ (power)

## LMH6504MA
designator U?
Wideband, Low Power, Variable Gain Amplifier, 8 pin SOIC NARROW; PartNumber: LMH6504MA; Manufacturer: National Semiconductor; PackageTopMarking: NSZXTT*LMH65*04MA; PowerWise: N; CompType: Amplifiers; High-Reliability: Y; DatasheetVersion: Sep-2006; PackageVersion: revM, May-2009; PackageReference: M08A; PackageDescription: SOIC Narrow, 4.9 x 3.9 x 1.45mm, 8 Lead, 1.27mm Pitch; RoHS: N; PinCount: 8; Code_JEDEC: MS-012-AA; Code_IPC: SOIC127P600-8; ComponentLink1Description: Manufacturer URL; ComponentLink1URL: http://www.national.com/; ComponentLink2Description: LMH6504 Datasheet; ComponentLink2URL: http://www.national.com/ds/LM/LMH6504.pdf; ComponentLink3Description: LMH6504 Web Page; ComponentLink3URL: http://www.national.com/pf/LM/LMH6504.html; ComponentLink4Description: M08A Package Page; ComponentLink4URL: http://www.national.com/packaging/folders/m08a.html
footprint M08A_N (SOIC, 8-Leads, Body 4.9x3.9mm, Pitch 1.27mm, IPC Medium Density)
footprint M08A_L (SOIC, 8-Leads, Body 4.9x3.9mm, Pitch 1.27mm, IPC High Density)
footprint M08A_M (SOIC, 8-Leads, Body 4.9x3.9mm, Pitch 1.27mm, IPC Low Density)
pins: 1 VG, 2 VIN (in), 3 RG, 4 GND (power), 5 V- (power), 6 VOUT (out), 7 I-, 8 V+ (power)

## LMH6504MA/NOPB
designator U?
Wideband, Low Power, Variable Gain Amplifier, 8 pin SOIC NARROW; PartNumber: LMH6504MA/NOPB; Manufacturer: National Semiconductor; PackageTopMarking: NSZXTT*LMH65*04MA; PowerWise: N; CompType: Amplifiers; High-Reliability: Y; DatasheetVersion: Sep-2006; PackageVersion: revM, May-2009; PackageReference: M08A; PackageDescription: SOIC Narrow, 4.9 x 3.9 x 1.45mm, 8 Lead, 1.27mm Pitch; RoHS: Y; PinCount: 8; Code_JEDEC: MS-012-AA; Code_IPC: SOIC127P600-8; ComponentLink1Description: Manufacturer URL; ComponentLink1URL: http://www.national.com/; ComponentLink2Description: LMH6504 Datasheet; ComponentLink2URL: http://www.national.com/ds/LM/LMH6504.pdf; ComponentLink3Description: LMH6504 Web Page; ComponentLink3URL: http://www.national.com/pf/LM/LMH6504.html; ComponentLink4Description: M08A Package Page; ComponentLink4URL: http://www.national.com/packaging/folders/m08a.html
footprint M08A_N (SOIC, 8-Leads, Body 4.9x3.9mm, Pitch 1.27mm, IPC Medium Density)
footprint M08A_L (SOIC, 8-Leads, Body 4.9x3.9mm, Pitch 1.27mm, IPC High Density)
footprint M08A_M (SOIC, 8-Leads, Body 4.9x3.9mm, Pitch 1.27mm, IPC Low Density)
pins: 1 VG, 2 VIN (in), 3 RG, 4 GND (power), 5 V- (power), 6 VOUT (out), 7 I-, 8 V+ (power)

## LMH6504MAX
designator U?
Wideband, Low Power, Variable Gain Amplifier, 8 pin SOIC NARROW; PartNumber: LMH6504MAX; Manufacturer: National Semiconductor; PackageTopMarking: NSZXTT*LMH65*04MA; PowerWise: N; CompType: Amplifiers; High-Reliability: Y; DatasheetVersion: Sep-2006; PackageVersion: revM, May-2009; PackageReference: M08A; PackageDescription: SOIC Narrow, 4.9 x 3.9 x 1.45mm, 8 Lead, 1.27mm Pitch; RoHS: N; PinCount: 8; Code_JEDEC: MS-012-AA; Code_IPC: SOIC127P600-8; ComponentLink1Description: Manufacturer URL; ComponentLink1URL: http://www.national.com/; ComponentLink2Description: LMH6504 Datasheet; ComponentLink2URL: http://www.national.com/ds/LM/LMH6504.pdf; ComponentLink3Description: LMH6504 Web Page; ComponentLink3URL: http://www.national.com/pf/LM/LMH6504.html; ComponentLink4Description: M08A Package Page; ComponentLink4URL: http://www.national.com/packaging/folders/m08a.html
footprint M08A_N (SOIC, 8-Leads, Body 4.9x3.9mm, Pitch 1.27mm, IPC Medium Density)
footprint M08A_L (SOIC, 8-Leads, Body 4.9x3.9mm, Pitch 1.27mm, IPC High Density)
footprint M08A_M (SOIC, 8-Leads, Body 4.9x3.9mm, Pitch 1.27mm, IPC Low Density)
pins: 1 VG, 2 VIN (in), 3 RG, 4 GND (power), 5 V- (power), 6 VOUT (out), 7 I-, 8 V+ (power)

## LMH6504MAX/NOPB
designator U?
Wideband, Low Power, Variable Gain Amplifier, 8 pin SOIC NARROW; PartNumber: LMH6504MAX/NOPB; Manufacturer: National Semiconductor; PackageTopMarking: NSZXTT*LMH65*04MA; PowerWise: N; CompType: Amplifiers; High-Reliability: Y; DatasheetVersion: Sep-2006; PackageVersion: revM, May-2009; PackageReference: M08A; PackageDescription: SOIC Narrow, 4.9 x 3.9 x 1.45mm, 8 Lead, 1.27mm Pitch; RoHS: Y; PinCount: 8; Code_JEDEC: MS-012-AA; Code_IPC: SOIC127P600-8; ComponentLink1Description: Manufacturer URL; ComponentLink1URL: http://www.national.com/; ComponentLink2Description: LMH6504 Datasheet; ComponentLink2URL: http://www.national.com/ds/LM/LMH6504.pdf; ComponentLink3Description: LMH6504 Web Page; ComponentLink3URL: http://www.national.com/pf/LM/LMH6504.html; ComponentLink4Description: M08A Package Page; ComponentLink4URL: http://www.national.com/packaging/folders/m08a.html
footprint M08A_N (SOIC, 8-Leads, Body 4.9x3.9mm, Pitch 1.27mm, IPC Medium Density)
footprint M08A_L (SOIC, 8-Leads, Body 4.9x3.9mm, Pitch 1.27mm, IPC High Density)
footprint M08A_M (SOIC, 8-Leads, Body 4.9x3.9mm, Pitch 1.27mm, IPC Low Density)
pins: 1 VG, 2 VIN (in), 3 RG, 4 GND (power), 5 V- (power), 6 VOUT (out), 7 I-, 8 V+ (power)

## LMH6504MM
designator U?
Wideband, Low Power, Variable Gain Amplifier, 8 pin MINI SOIC; PartNumber: LMH6504MM; Manufacturer: National Semiconductor; PackageTopMarking: ZXTT*A93A; PowerWise: N; CompType: Amplifiers; High-Reliability: Y; DatasheetVersion: Sep-2006; PackageVersion: revF, Apr-2008; PackageReference: MUA08A; PackageDescription: MINI SOIC, .118 x .118 x .034in, 8 Lead, .0256in Pitch; RoHS: N; PinCount: 8; Code_JEDEC: MO-187-AA; ComponentLink1Description: Manufacturer URL; ComponentLink1URL: http://www.national.com/; ComponentLink2Description: LMH6504 Datasheet; ComponentLink2URL: http://www.national.com/ds/LM/LMH6504.pdf; ComponentLink3Description: LMH6504 Web Page; ComponentLink3URL: http://www.national.com/pf/LM/LMH6504.html; ComponentLink4Description: MUA08A Package Page; ComponentLink4URL: http://www.national.com/packaging/folders/mua08a.html
footprint MUA08A_N (TSOP, 8-Leads, Body 3x3mm, Pitch 0.65mm, IPC Medium Density)
footprint MUA08A_L (TSOP, 8-Leads, Body 3x3mm, Pitch 0.65mm, IPC High Density)
footprint MUA08A_M (TSOP, 8-Leads, Body 3x3mm, Pitch 0.65mm, IPC Low Density)
pins: 1 VG, 2 VIN (in), 3 RG, 4 GND (power), 5 V- (power), 6 VOUT (out), 7 I-, 8 V+ (power)

## LMH6504MM/NOPB
designator U?
Wideband, Low Power, Variable Gain Amplifier, 8 pin MINI SOIC; PartNumber: LMH6504MM/NOPB; Manufacturer: National Semiconductor; PackageTopMarking: ZXTT*A93A; PowerWise: N; CompType: Amplifiers; High-Reliability: Y; DatasheetVersion: Sep-2006; PackageVersion: revF, Apr-2008; PackageReference: MUA08A; PackageDescription: MINI SOIC, .118 x .118 x .034in, 8 Lead, .0256in Pitch; RoHS: Y; PinCount: 8; Code_JEDEC: MO-187-AA; ComponentLink1Description: Manufacturer URL; ComponentLink1URL: http://www.national.com/; ComponentLink2Description: LMH6504 Datasheet; ComponentLink2URL: http://www.national.com/ds/LM/LMH6504.pdf; ComponentLink3Description: LMH6504 Web Page; ComponentLink3URL: http://www.national.com/pf/LM/LMH6504.html; ComponentLink4Description: MUA08A Package Page; ComponentLink4URL: http://www.national.com/packaging/folders/mua08a.html
footprint MUA08A_N (TSOP, 8-Leads, Body 3x3mm, Pitch 0.65mm, IPC Medium Density)
footprint MUA08A_L (TSOP, 8-Leads, Body 3x3mm, Pitch 0.65mm, IPC High Density)
footprint MUA08A_M (TSOP, 8-Leads, Body 3x3mm, Pitch 0.65mm, IPC Low Density)
pins: 1 VG, 2 VIN (in), 3 RG, 4 GND (power), 5 V- (power), 6 VOUT (out), 7 I-, 8 V+ (power)

## LMH6504MMX
designator U?
Wideband, Low Power, Variable Gain Amplifier, 8 pin MINI SOIC; PartNumber: LMH6504MMX; Manufacturer: National Semiconductor; PackageTopMarking: ZXTT*A93A; PowerWise: N; CompType: Amplifiers; High-Reliability: Y; DatasheetVersion: Sep-2006; PackageVersion: revF, Apr-2008; PackageReference: MUA08A; PackageDescription: MINI SOIC, .118 x .118 x .034in, 8 Lead, .0256in Pitch; RoHS: N; PinCount: 8; Code_JEDEC: MO-187-AA; ComponentLink1Description: Manufacturer URL; ComponentLink1URL: http://www.national.com/; ComponentLink2Description: LMH6504 Datasheet; ComponentLink2URL: http://www.national.com/ds/LM/LMH6504.pdf; ComponentLink3Description: LMH6504 Web Page; ComponentLink3URL: http://www.national.com/pf/LM/LMH6504.html; ComponentLink4Description: MUA08A Package Page; ComponentLink4URL: http://www.national.com/packaging/folders/mua08a.html
footprint MUA08A_N (TSOP, 8-Leads, Body 3x3mm, Pitch 0.65mm, IPC Medium Density)
footprint MUA08A_L (TSOP, 8-Leads, Body 3x3mm, Pitch 0.65mm, IPC High Density)
footprint MUA08A_M (TSOP, 8-Leads, Body 3x3mm, Pitch 0.65mm, IPC Low Density)
pins: 1 VG, 2 VIN (in), 3 RG, 4 GND (power), 5 V- (power), 6 VOUT (out), 7 I-, 8 V+ (power)

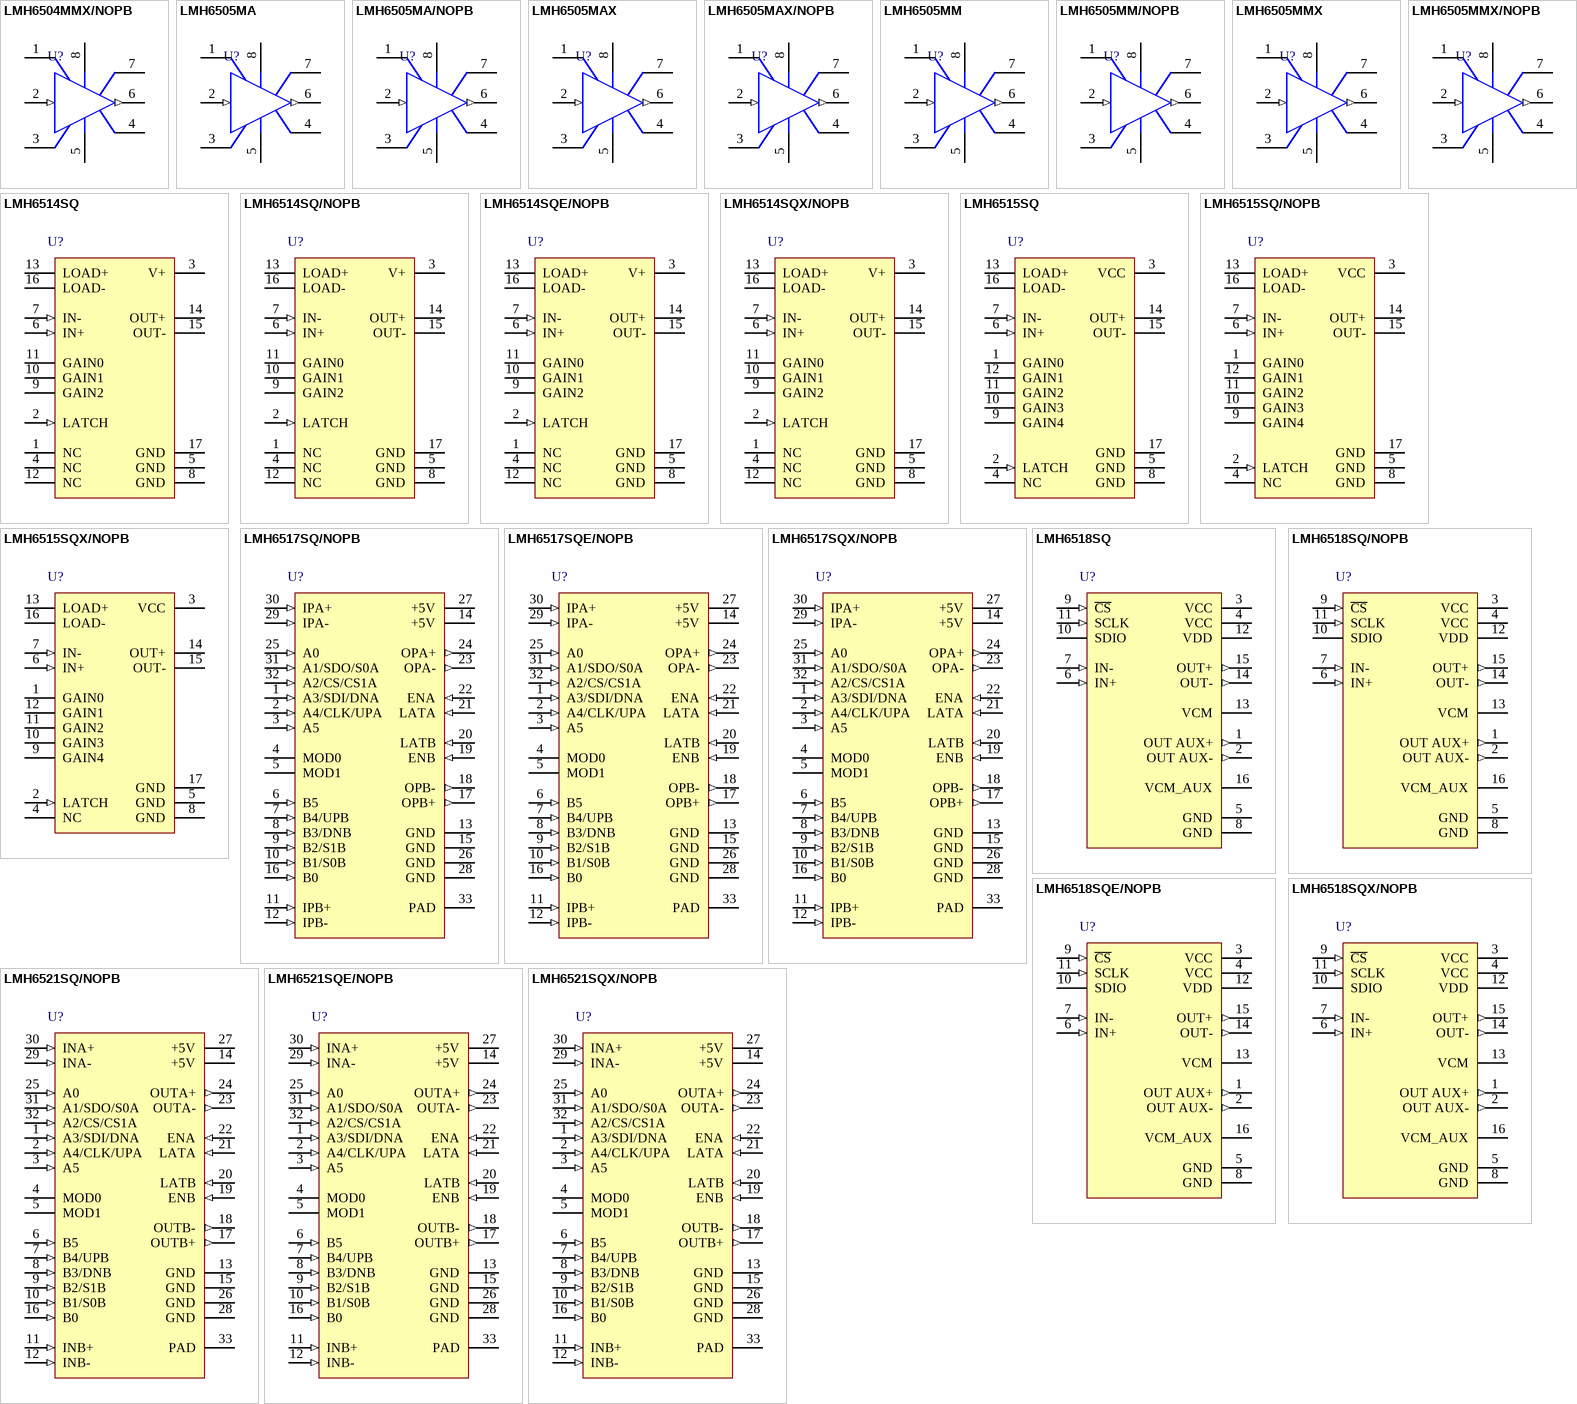
[diagram p40: symbols LMH6504MMX/NOPB to LMH6521SQX/NOPB]

## LMH6504MMX/NOPB
designator U?
Wideband, Low Power, Variable Gain Amplifier, 8 pin MINI SOIC; PartNumber: LMH6504MMX/NOPB; Manufacturer: National Semiconductor; PackageTopMarking: ZXTT*A93A; PowerWise: N; CompType: Amplifiers; High-Reliability: Y; DatasheetVersion: Sep-2006; PackageVersion: revF, Apr-2008; PackageReference: MUA08A; PackageDescription: MINI SOIC, .118 x .118 x .034in, 8 Lead, .0256in Pitch; RoHS: Y; PinCount: 8; Code_JEDEC: MO-187-AA; ComponentLink1Description: Manufacturer URL; ComponentLink1URL: http://www.national.com/; ComponentLink2Description: LMH6504 Datasheet; ComponentLink2URL: http://www.national.com/ds/LM/LMH6504.pdf; ComponentLink3Description: LMH6504 Web Page; ComponentLink3URL: http://www.national.com/pf/LM/LMH6504.html; ComponentLink4Description: MUA08A Package Page; ComponentLink4URL: http://www.national.com/packaging/folders/mua08a.html
footprint MUA08A_N (TSOP, 8-Leads, Body 3x3mm, Pitch 0.65mm, IPC Medium Density)
footprint MUA08A_L (TSOP, 8-Leads, Body 3x3mm, Pitch 0.65mm, IPC High Density)
footprint MUA08A_M (TSOP, 8-Leads, Body 3x3mm, Pitch 0.65mm, IPC Low Density)
pins: 1 VG, 2 VIN (in), 3 RG, 4 GND (power), 5 V- (power), 6 VOUT (out), 7 I-, 8 V+ (power)

## LMH6505MA
designator U?
Wideband, Low Power, Linear-in-dB, Variable Gain Amplifier, 8-pin Narrow SOIC; PartNumber: LMH6505MA; Manufacturer: National Semiconductor; PackageTopMarking: NSZXTT*LMH65*05MA; PowerWise: Y; CompType: Amplifiers; DatasheetVersion: Dec-2007; PackageVersion: revM, May-2009; PackageReference: M08A; PackageDescription: SOIC Narrow, 4.9 x 3.9 x 1.45mm, 8 Lead, 1.27mm Pitch; RoHS: Y; PinCount: 8; High-Reliability: Y; Code_JEDEC: MS-012-AA; Code_IPC: SOIC127P600-8; ComponentLink1Description: Manufacturer URL; ComponentLink1URL: http://www.national.com/; ComponentLink2Description: LMH6505 Datasheet; ComponentLink2URL: http://www.national.com/ds/LM/LMH6505.pdf; ComponentLink3Description: LMH6505 Web Page; ComponentLink3URL: http://www.national.com/pf/LM/LMH6505.html; ComponentLink4Description: M08A Package Page; ComponentLink4URL: http://www.national.com/packaging/folders/m08a.html
footprint M08A_N (SOIC, 8-Leads, Body 4.9x3.9mm, Pitch 1.27mm, IPC Medium Density)
footprint M08A_L (SOIC, 8-Leads, Body 4.9x3.9mm, Pitch 1.27mm, IPC High Density)
footprint M08A_M (SOIC, 8-Leads, Body 4.9x3.9mm, Pitch 1.27mm, IPC Low Density)
pins: 1 VG, 2 VIN (in), 3 RG, 4 GND (power), 5 V- (power), 6 VOUT (out), 7 I-, 8 V+ (power)

## LMH6505MA/NOPB
designator U?
Wideband, Low Power, Linear-in-dB, Variable Gain Amplifier, 8-pin Narrow SOIC, Pb-Free; PartNumber: LMH6505MA/NOPB; Manufacturer: National Semiconductor; PackageTopMarking: NSZXTT*LMH65*05MA; PowerWise: Y; CompType: Amplifiers; DatasheetVersion: Dec-2007; PackageVersion: revM, May-2009; PackageReference: M08A; PackageDescription: SOIC Narrow, 4.9 x 3.9 x 1.45mm, 8 Lead, 1.27mm Pitch; RoHS: Y; PinCount: 8; High-Reliability: Y; Code_JEDEC: MS-012-AA; Code_IPC: SOIC127P600-8; ComponentLink1Description: Manufacturer URL; ComponentLink1URL: http://www.national.com/; ComponentLink2Description: LMH6505 Datasheet; ComponentLink2URL: http://www.national.com/ds/LM/LMH6505.pdf; ComponentLink3Description: LMH6505 Web Page; ComponentLink3URL: http://www.national.com/pf/LM/LMH6505.html; ComponentLink4Description: M08A Package Page; ComponentLink4URL: http://www.national.com/packaging/folders/m08a.html
footprint M08A_N (SOIC, 8-Leads, Body 4.9x3.9mm, Pitch 1.27mm, IPC Medium Density)
footprint M08A_L (SOIC, 8-Leads, Body 4.9x3.9mm, Pitch 1.27mm, IPC High Density)
footprint M08A_M (SOIC, 8-Leads, Body 4.9x3.9mm, Pitch 1.27mm, IPC Low Density)
pins: 1 VG, 2 VIN (in), 3 RG, 4 GND (power), 5 V- (power), 6 VOUT (out), 7 I-, 8 V+ (power)

## LMH6505MAX
designator U?
Wideband, Low Power, Linear-in-dB, Variable Gain Amplifier, 8-pin Narrow SOIC; PartNumber: LMH6505MAX; Manufacturer: National Semiconductor; PackageTopMarking: NSZXTT*LMH65*05MA; PowerWise: Y; CompType: Amplifiers; DatasheetVersion: Dec-2007; PackageVersion: revM, May-2009; PackageReference: M08A; PackageDescription: SOIC Narrow, 4.9 x 3.9 x 1.45mm, 8 Lead, 1.27mm Pitch; RoHS: N; PinCount: 8; High-Reliability: Y; Code_JEDEC: MS-012-AA; Code_IPC: SOIC127P600-8; ComponentLink1Description: Manufacturer URL; ComponentLink1URL: http://www.national.com/; ComponentLink2Description: LMH6505 Datasheet; ComponentLink2URL: http://www.national.com/ds/LM/LMH6505.pdf; ComponentLink3Description: LMH6505 Web Page; ComponentLink3URL: http://www.national.com/pf/LM/LMH6505.html; ComponentLink4Description: M08A Package Page; ComponentLink4URL: http://www.national.com/packaging/folders/m08a.html
footprint M08A_N (SOIC, 8-Leads, Body 4.9x3.9mm, Pitch 1.27mm, IPC Medium Density)
footprint M08A_L (SOIC, 8-Leads, Body 4.9x3.9mm, Pitch 1.27mm, IPC High Density)
footprint M08A_M (SOIC, 8-Leads, Body 4.9x3.9mm, Pitch 1.27mm, IPC Low Density)
pins: 1 VG, 2 VIN (in), 3 RG, 4 GND (power), 5 V- (power), 6 VOUT (out), 7 I-, 8 V+ (power)

## LMH6505MAX/NOPB
designator U?
Wideband, Low Power, Linear-in-dB, Variable Gain Amplifier, 8-pin Narrow SOIC, Pb-Free; PartNumber: LMH6505MAX/NOPB; Manufacturer: National Semiconductor; PackageTopMarking: NSZXTT*LMH65*05MA; PowerWise: Y; CompType: Amplifiers; DatasheetVersion: Dec-2007; PackageVersion: revM, May-2009; PackageReference: M08A; PackageDescription: SOIC Narrow, 4.9 x 3.9 x 1.45mm, 8 Lead, 1.27mm Pitch; RoHS: Y; PinCount: 8; High-Reliability: Y; Code_JEDEC: MS-012-AA; Code_IPC: SOIC127P600-8; ComponentLink1Description: Manufacturer URL; ComponentLink1URL: http://www.national.com/; ComponentLink2Description: LMH6505 Datasheet; ComponentLink2URL: http://www.national.com/ds/LM/LMH6505.pdf; ComponentLink3Description: LMH6505 Web Page; ComponentLink3URL: http://www.national.com/pf/LM/LMH6505.html; ComponentLink4Description: M08A Package Page; ComponentLink4URL: http://www.national.com/packaging/folders/m08a.html
footprint M08A_N (SOIC, 8-Leads, Body 4.9x3.9mm, Pitch 1.27mm, IPC Medium Density)
footprint M08A_L (SOIC, 8-Leads, Body 4.9x3.9mm, Pitch 1.27mm, IPC High Density)
footprint M08A_M (SOIC, 8-Leads, Body 4.9x3.9mm, Pitch 1.27mm, IPC Low Density)
pins: 1 VG, 2 VIN (in), 3 RG, 4 GND (power), 5 V- (power), 6 VOUT (out), 7 I-, 8 V+ (power)

## LMH6505MM
designator U?
Wideband, Low Power, Linear-in-dB, Variable Gain Amplifier, 8-pin Mini SOIC; PartNumber: LMH6505MM; Manufacturer: National Semiconductor; PackageTopMarking: ZXTT*AZ2A; PowerWise: Y; CompType: Amplifiers; DatasheetVersion: Dec-2007; PackageVersion: revF, Apr-2008; PackageReference: MUA08A; PackageDescription: MINI SOIC, .118 x .118 x .034in, 8 Lead, .0256in Pitch; RoHS: Y; PinCount: 8; High-Reliability: Y; Code_JEDEC: MO-187-AA; ComponentLink1Description: Manufacturer URL; ComponentLink1URL: http://www.national.com/; ComponentLink2Description: LMH6505 Datasheet; ComponentLink2URL: http://www.national.com/ds/LM/LMH6505.pdf; ComponentLink3Description: LMH6505 Web Page; ComponentLink3URL: http://www.national.com/pf/LM/LMH6505.html; ComponentLink4Description: MUA08A Package Page; ComponentLink4URL: http://www.national.com/packaging/folders/mua08a.html
footprint MUA08A_N (TSOP, 8-Leads, Body 3x3mm, Pitch 0.65mm, IPC Medium Density)
footprint MUA08A_L (TSOP, 8-Leads, Body 3x3mm, Pitch 0.65mm, IPC High Density)
footprint MUA08A_M (TSOP, 8-Leads, Body 3x3mm, Pitch 0.65mm, IPC Low Density)
pins: 1 VG, 2 VIN (in), 3 RG, 4 GND (power), 5 V- (power), 6 VOUT (out), 7 I-, 8 V+ (power)

## LMH6505MM/NOPB
designator U?
Wideband, Low Power, Linear-in-dB, Variable Gain Amplifier, 8-pin Mini SOIC, Pb-Free; PartNumber: LMH6505MM/NOPB; Manufacturer: National Semiconductor; PackageTopMarking: ZXTT*AZ2A; PowerWise: Y; CompType: Amplifiers; DatasheetVersion: Dec-2007; PackageVersion: revF, Apr-2008; PackageReference: MUA08A; PackageDescription: MINI SOIC, .118 x .118 x .034in, 8 Lead, .0256in Pitch; RoHS: Y; PinCount: 8; High-Reliability: Y; Code_JEDEC: MO-187-AA; ComponentLink1Description: Manufacturer URL; ComponentLink1URL: http://www.national.com/; ComponentLink2Description: LMH6505 Datasheet; ComponentLink2URL: http://www.national.com/ds/LM/LMH6505.pdf; ComponentLink3Description: LMH6505 Web Page; ComponentLink3URL: http://www.national.com/pf/LM/LMH6505.html; ComponentLink4Description: MUA08A Package Page; ComponentLink4URL: http://www.national.com/packaging/folders/mua08a.html
footprint MUA08A_N (TSOP, 8-Leads, Body 3x3mm, Pitch 0.65mm, IPC Medium Density)
footprint MUA08A_L (TSOP, 8-Leads, Body 3x3mm, Pitch 0.65mm, IPC High Density)
footprint MUA08A_M (TSOP, 8-Leads, Body 3x3mm, Pitch 0.65mm, IPC Low Density)
pins: 1 VG, 2 VIN (in), 3 RG, 4 GND (power), 5 V- (power), 6 VOUT (out), 7 I-, 8 V+ (power)